# Altium footprint library Microchip.PcbLib: 1 footprints
Each footprint in its own frame and in the unit in brackets; x right, y up, seen from the top. Pads: shape width x height; smd on the part's side, far side on the other; paste and mask are expansions set on the pad; w line width, h text height; cw(c..) or ccw(c..) is an arc to the next point about the centre after c.
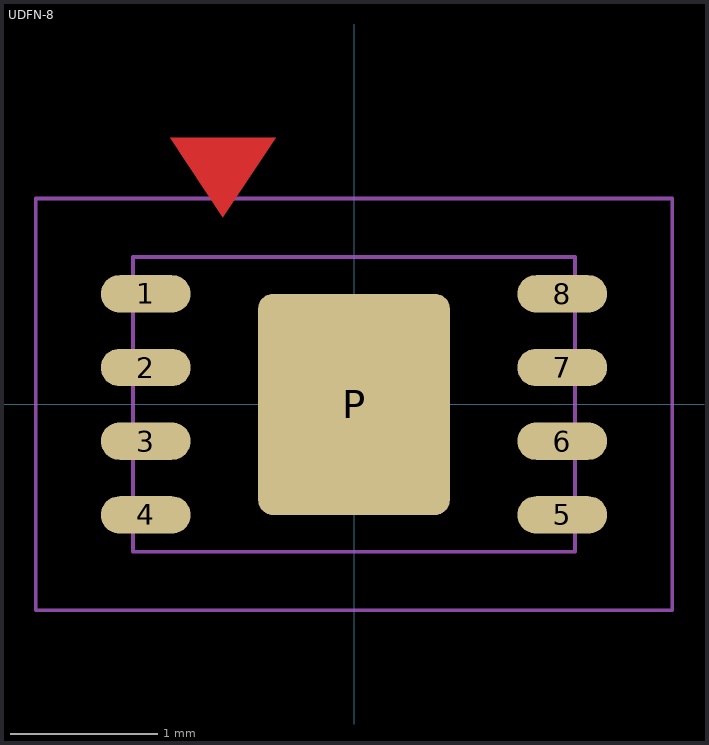
[diagram p0: the footprint, top view; thin cyan lines are the x and y axes]

## UDFN-8 [mil]
pads (9):
  oval 24x10 smd mask+2: 1(-55.63,29.53) 2(-55.63,9.84) 3(-55.63,-9.84) 4(-55.63,-29.53) 5(55.63,-29.53) 6(55.63,-9.84) 7(55.63,9.84) 8(55.63,29.53)
  rrect15% 51.18x59.06 smd paste-300 mask+1.5: P(0,0)
Top Layer:
  region: -35,50 -20.86,71.21 -49.14,71.21
Top Paste:
  rectangle: -20,5 20,25
  rectangle: -20,-25 20,-5
Top Designator:
  text ".Designator" at -127.64,-12.5 h35
Top Courtyard:
  lines w1: -85,-55 -85,55 85,55 85,-55 -85,-55
Top Component Outline:
  lines w1: -59.06,-39.37 -59.06,39.37 59.06,39.37 59.06,-39.37 -59.06,-39.37
3D body: height 24, standoff 23, extent -49.95,18.02 -37.99,29.99
3D body: height 10, standoff 0, extent 49.32,-34.53 59.32,-24.53
3D body: height 10, standoff 0, extent 49.31,-14.84 59.31,-4.84
3D body: height 10, standoff 0, extent 49.31,4.84 59.31,14.84
3D body: height 10, standoff 0, extent 49.31,24.53 59.31,34.53
3D body: height 10, standoff 0, extent -59.31,-34.53 -49.31,-24.53
3D body: height 10, standoff 0, extent -59.32,-14.84 -49.32,-4.84
3D body: height 10, standoff 0, extent -59.31,4.84 -49.31,14.84
3D body: height 10, standoff 0, extent -59.31,24.53 -49.31,34.53
3D body: height 23.62, standoff 1.97, extent -59.06,-39.37 59.06,39.37